# Altium footprint library SOD-64.PcbLib: 1 footprints
Each footprint in its own frame and in the unit in brackets; x right, y up, seen from the top. Pads: shape width x height; smd on the part's side, far side on the other; paste and mask are expansions set on the pad; w line width, h text height; cw(c..) or ccw(c..) is an arc to the next point about the centre after c.
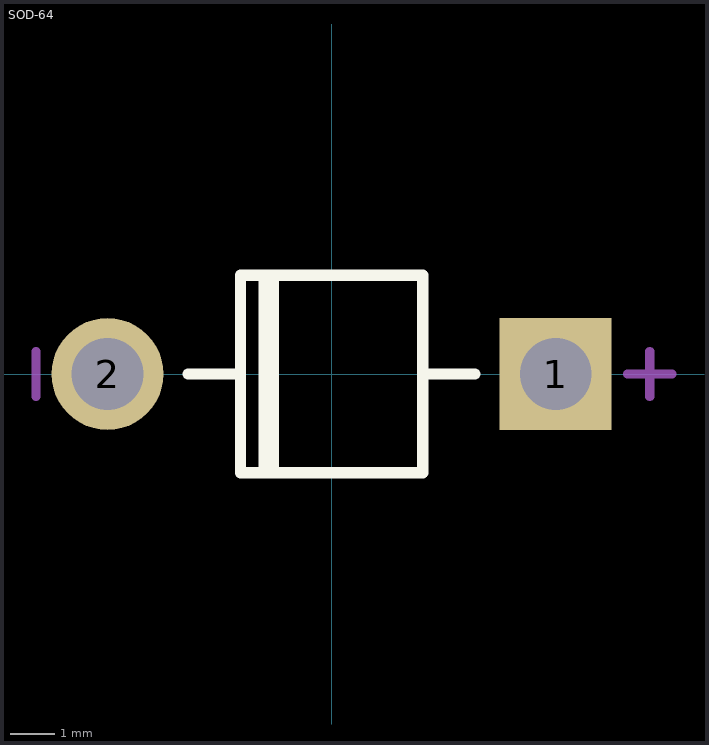
[diagram p0: the footprint, top view; thin cyan lines are the x and y axes]

## SOD-64 [mm]
pads (2):
  rect 2.5x2.5 hole 1.6: 1(5,0)
  round 2.5 hole 1.6: 2(-5,0)
Top Overlay:
  lines w0.254: -3.2,0 -2.032,0 ; -1.5,-2.2 -1.5,2.2 ; -1.3,-2.2 -1.3,2.2 ; 2.032,0 3.2,0 ; -2.032,-2.2 -2.032,2.2 2.032,2.2 2.032,-2.2 -2.032,-2.2
Mechanical 15:
  lines w0.203: -6.6,-0.5 -6.6,0.5 ; 6.6,0 7.6,0 ; 7.1,-0.5 7.1,0.5